# Altium schematic symbol library LM2731.SchLib: 1 symbol
Pins are listed as number, name and electrical type; pins without a type are passive.

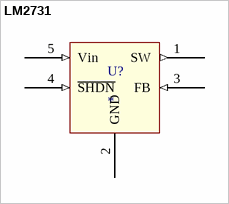
[diagram p0: symbol LM2731]

## LM2731
designator U?
Boost switch regulator DCDC
footprint LM2731 footprint
pins: 1 SW (out), 2 GND (power), 3 FB (in), 4 ~{SHDN} (in), 5 Vin (in)